# Altium footprint library Components - 22.04.20 - 03.23.PcbLib: 1 footprints
Each footprint in its own frame and in the unit in brackets; x right, y up, seen from the top. Pads: shape width x height; smd on the part's side, far side on the other; paste and mask are expansions set on the pad; w line width, h text height; cw(c..) or ccw(c..) is an arc to the next point about the centre after c.
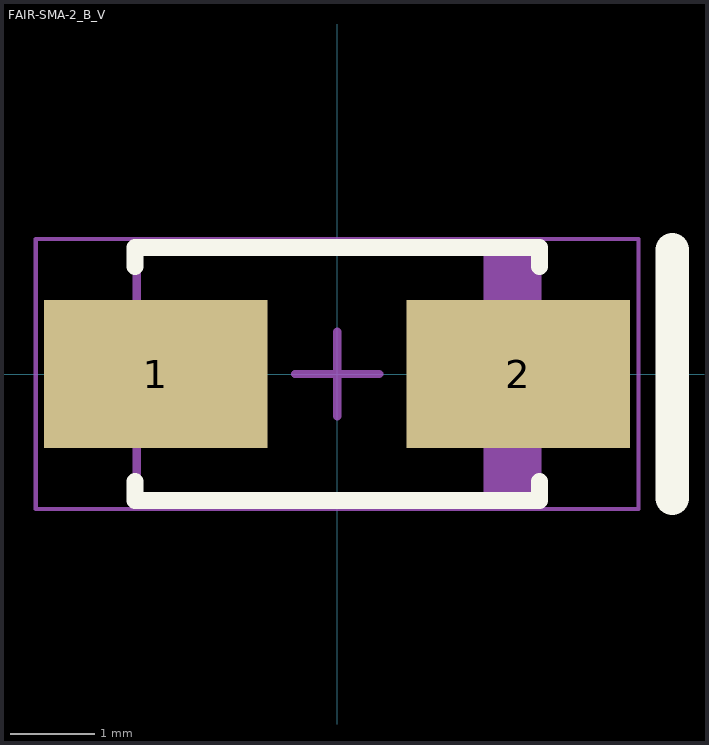
[diagram p0: the footprint, top view; thin cyan lines are the x and y axes]

## FAIR-SMA-2_B_V [mm] "Molded Diode, 2-Leads, Body 4.75x2.95mm"
height 2.7
pads (2):
  rect 2.65x1.75 smd: 1(-2.15,0) 2(2.15,0)
Top Overlay:
  lines w0.2: -2.4,-1.275 -2.4,-1.5 2.4,-1.5 2.4,-1.275 ; -2.4,1.275 -2.4,1.5 2.4,1.5 2.4,1.275
  lines w0.4: 3.975,-1.475 3.975,1.475
Mechanical 13:
  rectangle: 1.736,-1.475 2.375,1.475
  lines w0.1: -2.375,-1.475 2.375,-1.475 2.375,1.475 -2.375,1.475 -2.375,-1.475
Mechanical 15:
  lines w0.05: -3.575,-1.6 3.575,-1.6 3.575,1.6 -3.575,1.6 -3.575,-1.6
  lines w0.1: -0.5,0 0.5,0 ; 0,-0.5 0,0.5
3D body "DIOM4427X27L.step": height 2.7, standoff 0, extent -2.595,-1.475 2.595,1.475